# Altium schematic symbol library Schlib.SchLib: 18 symbols
Pins are listed as number, name and electrical type; pins without a type are passive.

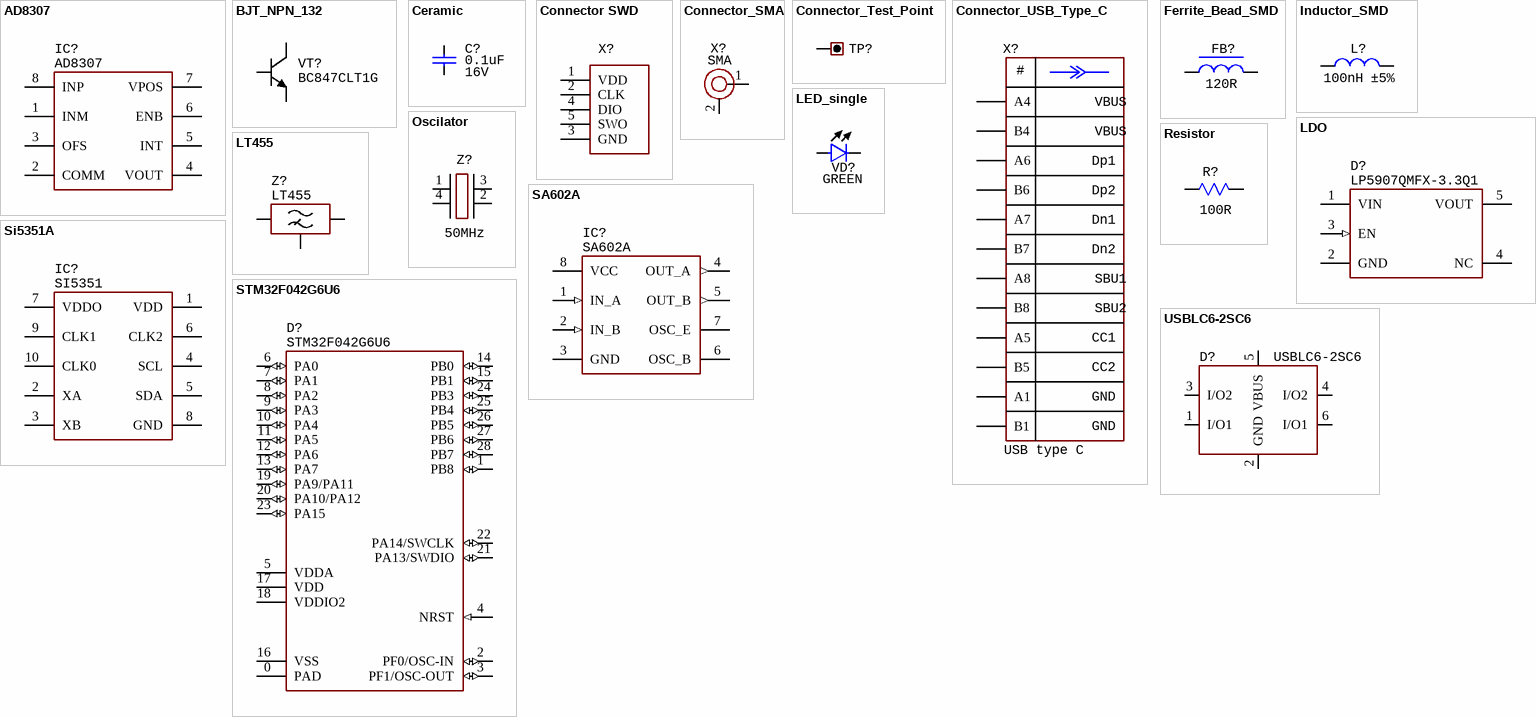
[diagram p0: symbols AD8307 to USBLC6-2SC6]

## AD8307
designator IC?
Integrated Circuit; Manufacturer_Name: Analog Devices; Datasheet Link: https://www.arrow.com/en/products/ad8310arm/analog-devices; Height: 1.1mm; Manufacturer_Part_Number: AD8307; Mouser Price/Stock: https://www.mouser.com/Search/Refine.aspx?Keyword=584-AD8310ARM; Arrow Price/Stock: https://www.arrow.com/en/products/ad8310arm/analog-devices
footprint 8-SOIC (pitch 1.27 mm)
pins: 1 INM, 2 COMM, 3 OFS, 4 VOUT, 5 INT, 6 ENB, 7 VPOS, 8 INP

## BJT_NPN_132
designator VT?  PartNumber: BC847CLT1G
Manufacturer: ON Semiconductor; ValueManufacturerPartNumber: NPN transistor, 45V, 100mA, 100MHz, 300mW, 0.6V, 420, SOT-23, -55...+125°C; TypeTransistor: NPN transistor; VoltageCE: 45V; CurrentCE: 100mA; VoltageSaturation: 0.6V; Frequency: 100MHz; CurrentGain: 420; MaxPower: 300mW; Package: SOT-23; HelpURL: https://www.digikey.com/product-detail/en/on-semiconductor/BC847CLT1G/BC847CLT1GOSCT-ND/917836; Temperature: -55...+125°C
footprint D2PAK
footprint DPAK
footprint SOT23
footprint SOT89
footprint SC-70
pins: 1 B, 2 E, 3 C

## Ceramic
designator C?  value 0.1uF  Voltage: 16V
Manufacturer: Yageo; PartNumber: CC0201KRX7R7BB103; ValueManufacturerPartNumber: Ceramic capacitor, 0.1uF, X7R, ±10%, 16V, 0201, -55...+125°C; TypeCapacitor: Ceramic capacitor; Tolerance: ±10%; TypeDielectric: X7R; Package: 0201; HelpURL: https://www.digikey.com/product-detail/en/yageo/CC0201KRX7R7BB103/311-1404-1-ND/2833710; Temperature: -55...+125°C
footprint CAP: 0201
footprint CAP: 0402
footprint CAP: 0603
footprint CAP: 0805
footprint CAP: 1206
footprint CAP: 1210
footprint CAP: 1812
footprint CAP: 2220
pins: 1, 2

## Connector SWD
designator X?
SWD Interface
footprint CON: 1.27 Pogo Pin contact
pins: 1 VDD, 2 CLK, 3 GND, 4 DIO, 5 SWO

## Connector_SMA
designator X?  CommentText: SMA
Manufacturer: TE Connectivity; ValueManufacturerPartNumber: Connector SMA, 50 Ohm, 3GHz; PartNumber: 5-1814832-1; TypeConnector: Connector SMA; Frequency: 3GHz; Impedance: 50 Ohm; HelpURL: https://www.digikey.com/product-detail/en/te-connectivity-amp-connectors/5-1814832-1/A97594-ND/1755982
footprint CON: SMA EDGE MOUNT
pins: 1, 2

## Connector_Test_Point
designator TP?
Manufacturer: Keystone; ValueManufacturerPartNumber: Test point, Keystone, 5001; PartNumber: 5001; TypeConnector: Test point; HelpURL: https://www.digikey.com/product-detail/en/keystone-electronics/5001/36-5001-ND/255327
footprint CON: 5000 (Keystone)
footprint CON: 5001 (Keystone)
footprint CON: 5002 (Keystone)
footprint CON: 5004 (Keystone)
footprint CON: 5116 (Keystone)
footprint CON: test_point
pins: 1

## Connector_USB_Type_C
designator X?  CommentText: USB type C
Manufacturer: Korean Hroparts; ValueManufacturerPartNumber: USB Type C, 3A; PartNumber: TYPE-C-31-M-12; CurrentMax: 3A; HelpURL: https://lcsc.com/product-detail/USB-Type-C_Korean-Hroparts-Elec-TYPE-C-31-M-12_C165948.html; TypeConnector: USB Type C
footprint CON: TYPE-C-31-M-12
pins: A1, A4, A5, A6, A7, A8, B1, B4, B5, B6, B7, B8
text: #; VBUS; Dp1; Dp2; Dn1; Dn2; SBU1; SBU2; CC1; CC2; GND

## Ferrite_Bead_SMD
designator FB?  Resistance: 120R
Manufacturer: Murata Electronics; PartNumber: LQP03TNR10J02D; TypeInductor: Ferrite Bead; MaxCurrent: 80mA; Frequency: 100 MHz; Package: 0201; HelpURL: https://www.digikey.com/product-detail/en/murata-electronics-north-america/LQP03TNR10J02D/490-6742-1-ND/3845939; ValueManufacturerPartNumber: =TypeInductor+', '+Value+', '+Tolerance+', '+Package+', '+MaxCurrent+', '+Temperature; Temperature: -55...+125°C
footprint IND: 0201
footprint IND: 0402
footprint IND: 0603
footprint IND: 0805
footprint IND: CD32
footprint IND: CD43
footprint IND: SDR0302
footprint IND: SDR0403
footprint IND: SDR0604
footprint IND: SDR0805
footprint IND: SDR1006
footprint IND: SRP1038C
footprint IND: SRP1265A
footprint IND: SRP2510A
footprint IND: SRP7028A
footprint IND: 7443641000
footprint IND: SRP6540
footprint IND: SRP3020C
footprint IND: SRP5030
footprint IND: 1008
pins: 1, 2

## Inductor_SMD
designator L?  value 100nH  Tolerance: ±5%
Manufacturer: Murata Electronics; PartNumber: LQP03TNR10J02D; ValueManufacturerPartNumber: Fixed inductor, 100nH, ±5%, 0201, 80mA, -55...+125°C; TypeInductor: Fixed inductor; MaxCurrent: 80mA; Package: 0201; HelpURL: https://www.digikey.com/product-detail/en/murata-electronics-north-america/LQP03TNR10J02D/490-6742-1-ND/3845939; Temperature: -55...+125°C
footprint IND: 0201
footprint IND: 0402
footprint IND: 0603
footprint IND: 0805
footprint IND: CD32
footprint IND: CD43
footprint IND: SDR0302
footprint IND: SDR0403
footprint IND: SDR0604
footprint IND: SDR0805
footprint IND: SDR1006
footprint IND: SRP1038C
footprint IND: SRP1265A
footprint IND: SRP2510A
footprint IND: SRP7028A
footprint IND: 7443641000
footprint IND: SRP6540
footprint IND: SRP3020C
footprint IND: SRP5030
pins: 1, 2

## LDO
designator D?, comment LP5907QMFX-3.3Q1
ValueManufacturerPartNumber: LP5907QMFX-3.3Q1; PartNumber: LP5907QMFX-3.3Q1
footprint SOT23-5 (pitch 0.95 mm)
pins: 1 VIN (power), 2 GND, 3 EN (in), 4 NC, 5 VOUT (power)

## LED_single
designator VD?  Color: GREEN
ValueManufacturerPartNumber: LED, Green, *, *, *, -55...+150°C; TypeDiode: LED; Manufacturer: *; Package: *; HelpURL: *; Temperature: -55...+150°C; Current: *; VoltageDrop: *; PartNumber: *; ColorParameter: Green
footprint LED: 0402B
footprint LED: 0402G
footprint LED: 0402O
footprint LED: 0402R
footprint LED: 0402Y
footprint LED: 0603B
footprint LED: 0603G
footprint LED: 0603R
footprint LED: 0603Y
footprint LED: 0805B
footprint LED: 0805G
footprint LED: 0805R
footprint LED: 0805Y
footprint LED: 1206B
footprint LED: 1206G
footprint LED: 1206R
footprint LED: 1206W
footprint LED: 1206Y
footprint LED: 5730
footprint LED: 6868
pins: 1, 2

## LT455
designator Z?  PartNumber: LT455
footprint LT455U
footprint CFUKG455
pins: 1 IN, 2 OUT, 3 GND

## Oscilator
designator Z?  Frequency: 50MHz
Manufacturer: Abracon LLC; PartNumber: ASFL1-50.000MHZ-EC-T; ValueManufacturerPartNumber: Oscilator, 50MHz, HCMOS, ±50ppm, case 5032, -20...+70°C; TypeOscilator: Oscilator; LoadCapacitance: HCMOS; Tolerance: ±50ppm; Package: case 5032; HelpURL: https://www.digikey.com/product-detail/en/abracon-llc/ASFL1-50.000MHZ-EC-T/300-8264-1-ND/687957; Temperature: -20...+70°C
footprint OSC: 5032G
footprint OSC: 5070G
footprint OSC: 2016
footprint OSC: 2520
footprint OSC: 3225
pins: 1, 2, 3, 4

## Resistor
designator R?  value 100R
Manufacturer: Yageo; PartNumber: RC0201JR-07100RL; ValueManufacturerPartNumber: Resistor film, 100R, ±5%, 0201, 0.05W, -55...+125°C; TypeResistor: Resistor film; Power: 0.05W; Tolerance: ±5%; Package: 0201; HelpURL: https://www.digikey.com/product-detail/en/yageo/RC0201JR-07100RL/311-100NCT-ND/1949006; Temperature: -55...+125°C
footprint RES: 0201
footprint RES: 0402
footprint RES: 0603
footprint RES: 0805
footprint RES: 1206
footprint RES: 1210
footprint RES: 2010
footprint RES: 2512
footprint RES: CSS2H (2512)
pins: 1, 2

## SA602A
designator IC?
Integrated Circuit; Manufacturer_Name: NXP; Manufacturer_Part_Number: SA602AD/01,118; Datasheet Link: http://www.nxp.com/docs/en/data-sheet/SA602A.pdf; Height: 1.75mm; Mouser Part Number: 771-SA602AD/01-T; Mouser Price/Stock: https://www.mouser.co.uk/ProductDetail/NXP-Semiconductors/SA602AD-01118?qs=LOCUfHb8d9uqq1xhBWuUZQ%3D%3D; Arrow Part Number: SA602AD/01,118; Arrow Price/Stock: https://www.arrow.com/en/products/sa602ad01118/nxp-semiconductors?region=nac
footprint 8-SOIC (pitch 1.27 mm)
pins: 1 IN_A (in), 2 IN_B (in), 3 GND (power), 4 OUT_A (out), 5 OUT_B (out), 6 OSC_B, 7 OSC_E, 8 VCC (power)

## Si5351A
designator IC?, comment SI5351
Integrated Circuit; Manufacturer_Name: Silicon Labs; Manufacturer_Part_Number: Si5351A-B-GT; Datasheet Link: https://componentsearchengine.com/Datasheets/1/Si5351A-B-GT.pdf; Height: 1.1mm; Mouser Part Number: 634-SI5351A-B-GT; Mouser Price/Stock: https://www.mouser.co.uk/ProductDetail/Silicon-Labs/SI5351A-B-GT?qs=p9T7GgSe1IEO%252BMfC%2FKPFfA%3D%3D; Arrow Part Number: SI5351A-B-GT; Arrow Price/Stock: https://www.arrow.com/en/products/si5351a-b-gt/silicon-labs
footprint 10-MSOP (3x3 mm, pitch 0.5 mm)
pins: 1 VDD, 2 XA, 3 XB, 4 SCL, 5 SDA, 6 CLK2, 7 VDDO, 8 GND, 9 CLK1, 10 CLK0

## STM32F042G6U6
designator D?, comment PartNumber: STM32F042G6U6  (hidden comment: STM32F042K6U6)
Cortex-M0, 48MHz, 32KB ROM, 6KB RAM, 2.4...3.6V, QFN-28, -40...+85°C; Manufacturer: STMicroelectronics; HelpURL: https://eu.mouser.com/ProductDetail/STMicroelectronics/STM32F042K6U6?qs=4l9S5vBWkUI1HFPPlP09zA%3D%3D; Package: QFN-28
footprint 28-QFN (4x4) (4x4 mm, pitch 0.5 mm, power pad)
pins: 0 PAD, 1 PB8 (io), 2 PF0/OSC-IN (io), 3 PF1/OSC-OUT (io), 4 NRST (in), 5 VDDA, 6 PA0 (io), 7 PA1 (io), 8 PA2 (io), 9 PA3 (io), 10 PA4 (io), 11 PA5 (io), 12 PA6 (io), 13 PA7 (io), 14 PB0 (io), 15 PB1 (io), 16 VSS, 17 VDD, 18 VDDIO2, 19 PA9/PA11 (io), 20 PA10/PA12 (io), 21 PA13/SWDIO (io), 22 PA14/SWCLK (io), 23 PA15 (io), 24 PB3 (io), 25 PB4 (io), 26 PB5 (io), 27 PB6 (io), 28 PB7 (io)

## USBLC6-2SC6
designator D?  PartNumber: USBLC6-2SC6
Manufacturer: STMicroelectronics; TypeDiode: USB protection; Current: 5A peak; VoltageDrop: 17V; RecoveryTime: Power line; Package: SOT-23-6; HelpURL: https://www.digikey.com/product-detail/en/stmicroelectronics/USBLC6-2SC6/497-5235-1-ND/1121688; ValueManufacturerPartNumber: =TypeDiode+', '+Voltage+', '+Current+', '+VoltageDrop+', '+RecoveryTime+', '+Package+', '+Temperature; Temperature: -40...+125°C
footprint SOT23-6 (pitch 0.95 mm)
pins: 1 I/O1, 2 GND, 3 I/O2, 4 I/O2, 5 VBUS, 6 I/O1